# EAGLE library part SIM800L_MINI (library CaliBeta-Modulos)
modulo GSM, GPRS SIM800L
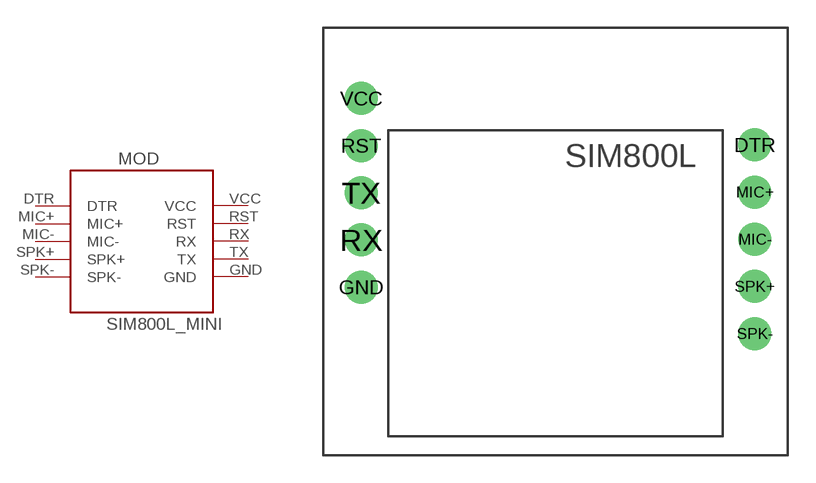
[diagram p0: symbol with the pads of SIM800L; footprint SIM800L]

Designator prefix MOD

## SIM800L_MINI  [SIM800L]
DTR  DTR
GND  GND  pwr
MIC+  MIC+  in
MIC-  MIC-  in
RST  RST
RX  RX
SPK+  SPK+  out
SPK-  SPK-  out
TX  TX
VCC  VCC  pwr

## Footprint SIM800L (pad centres in mm)
drill 1 pad 1.778: DTR 11.24,6.7; GND -9.96,-0.96; MIC+ 11.24,4.16; MIC- 11.24,1.62; RST -9.96,6.66; RX -9.96,1.58; SPK+ 11.24,-0.92; SPK- 11.24,-3.46; TX -9.96,4.12; VCC -9.96,9.2